# Altium footprint library HV9006_MEASUREBOARD.PCBLIB: 292 footprints (part 5 of 19)
Each footprint in its own frame and in the unit in brackets; x right, y up, seen from the top. Pads: shape width x height; smd on the part's side, far side on the other; paste and mask are expansions set on the pad; w line width, h text height; cw(c..) or ccw(c..) is an arc to the next point about the centre after c.
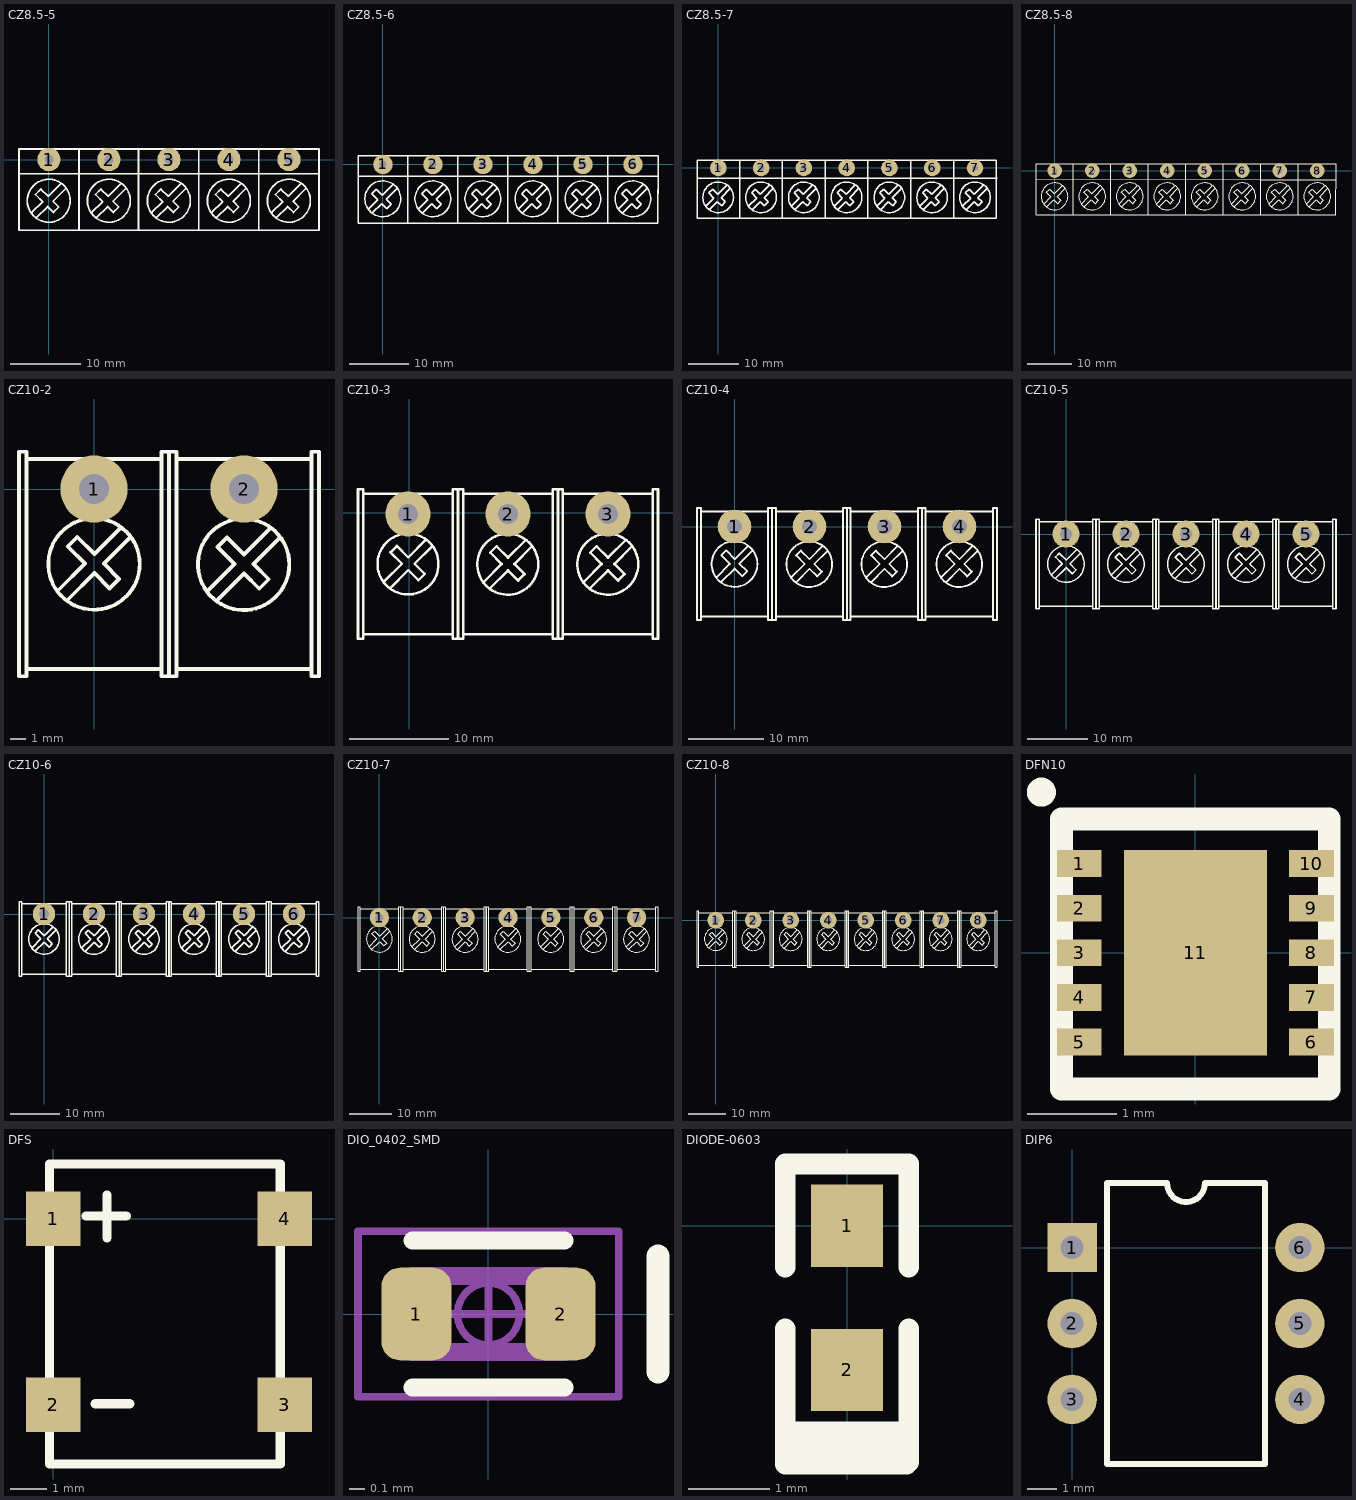
[diagram p4: the footprints below, top view; thin cyan lines are the x and y axes]

## CZ8.5-5 [mil]
pads (5):
  round 130 hole 50: 1(0,0) 2(334.65,0) 3(669.29,0) 4(1003.94,0) 5(1338.58,0)
Top Overlay:
  circle w10: c1003.29,-230 r119.77
  circle w10: c334,-230 r119.77
  circle w10: c-1,-230 r119.77
  circle w10: c668.65,-230 r119.77
  circle w10: c1337.94,-230 r119.77
  lines w10: -167,-197 -167,0 ; -167,-79 1505.94,-80 ; -95,-295 -35,-235 -75,-195 -45,-165 -5,-205 65,-135 ; -70,-325 -7.5,-262.5 25,-295 55,-265 22.68,-232.32 95,-160 ; 167.32,-394 167.32,59 ; 239.65,-295 299.65,-235 259.65,-195 289.65,-165 329.65,-205 399.65,-135 ; 264.65,-325 327.15,-262.5 359.65,-295 389.65,-265 357.33,-232.32 429.65,-160 ; 500,-394 500,59 ; 574.29,-295 634.29,-235 594.29,-195 624.29,-165 664.29,-205 734.29,-135 ; 599.29,-325 661.79,-262.5 694.29,-295 724.29,-265 691.97,-232.32 764.29,-160 ; 835,-394 835,59 ; 908.94,-295 968.94,-235 928.94,-195 958.94,-165 998.94,-205 1068.94,-135 ; 933.94,-325 996.44,-262.5 1028.94,-295 1058.94,-265 1026.62,-232.32 1098.94,-160 ; 1170,-394 1170,59 ; 1243.58,-295 1303.58,-235 1263.58,-195 1293.58,-165 1333.58,-205 1403.58,-135 ; 1268.58,-325 1331.08,-262.5 1363.58,-295 1393.58,-265 1361.27,-232.32 1433.58,-160 ; 1505.94,-197 1505.94,0 ; 1505.91,-394 1505.94,59 ; 1505.91,-394 -167,-394 -167,59 1505.94,59 ; 1505.91,-394 1505.94,59 ; 1505.91,-394 1505.94,59 ; 1505.91,-394 1505.94,59

## CZ8.5-6 [mil]
pads (6):
  round 130 hole 50: 1(0,0) 2(334.65,0) 3(669.29,0) 4(1003.94,0) 5(1338.58,0) 6(1673.23,0)
Top Overlay:
  circle w10: c1337.94,-230 r119.77
  circle w10: c668.65,-230 r119.77
  circle w10: c-1,-230 r119.77
  circle w10: c334,-230 r119.77
  circle w10: c1003.29,-230 r119.77
  circle w10: c1672.58,-230 r119.77
  lines w10: -167,-197 -167,0 ; -167,-79 1840.58,-80 ; -95,-295 -35,-235 -75,-195 -45,-165 -5,-205 65,-135 ; -70,-325 -7.5,-262.5 25,-295 55,-265 22.68,-232.32 95,-160 ; 167.32,-394 167.32,59 ; 239.65,-295 299.65,-235 259.65,-195 289.65,-165 329.65,-205 399.65,-135 ; 264.65,-325 327.15,-262.5 359.65,-295 389.65,-265 357.33,-232.32 429.65,-160 ; 500,-394 500,59 ; 574.29,-295 634.29,-235 594.29,-195 624.29,-165 664.29,-205 734.29,-135 ; 599.29,-325 661.79,-262.5 694.29,-295 724.29,-265 691.97,-232.32 764.29,-160 ; 835,-394 835,59 ; 908.94,-295 968.94,-235 928.94,-195 958.94,-165 998.94,-205 1068.94,-135 ; 933.94,-325 996.44,-262.5 1028.94,-295 1058.94,-265 1026.62,-232.32 1098.94,-160 ; 1170,-394 1170,59 ; 1243.58,-295 1303.58,-235 1263.58,-195 1293.58,-165 1333.58,-205 1403.58,-135 ; 1268.58,-325 1331.08,-262.5 1363.58,-295 1393.58,-265 1361.27,-232.32 1433.58,-160 ; 1505,-394 1505,59 ; 1578.23,-295 1638.23,-235 1598.23,-195 1628.23,-165 1668.23,-205 1738.23,-135 ; 1603.23,-325 1665.73,-262.5 1698.23,-295 1728.23,-265 1695.91,-232.32 1768.23,-160 ; 1840.58,-197 1840.58,0 ; 1840.55,-394 1840.58,59 ; 1840.55,-394 1840.58,59 ; 1840.55,-394 1840.58,59 ; 1840.55,-394 -167,-394 -167,59 1840.58,59 ; 1840.55,-394 1840.58,59 ; 1840.55,-394 1840.58,59 ; 1840.55,-394 1840.58,59 ; 1840.55,-394 1840.58,59 ; 1840.55,-394 1840.58,59

## CZ8.5-7 [mil]
pads (7):
  round 130 hole 50: 1(0,0) 2(334.65,0) 3(669.29,0) 4(1003.94,0) 5(1338.58,0) 6(1673.23,0) 7(2007.87,0)
Top Overlay:
  circle w10: c2007.23,-230 r119.77
  circle w10: c1337.94,-230 r119.77
  circle w10: c668.65,-230 r119.77
  circle w10: c-1,-230 r119.77
  circle w10: c334,-230 r119.77
  circle w10: c1003.29,-230 r119.77
  circle w10: c1672.58,-230 r119.77
  lines w10: -167,-197 -167,0 ; -167,-79 1840.58,-80 2180,-80 ; -95,-295 -35,-235 -75,-195 -45,-165 -5,-205 65,-135 ; -70,-325 -7.5,-262.5 25,-295 55,-265 22.68,-232.32 95,-160 ; 167.32,-394 167.32,59 ; 239.65,-295 299.65,-235 259.65,-195 289.65,-165 329.65,-205 399.65,-135 ; 264.65,-325 327.15,-262.5 359.65,-295 389.65,-265 357.33,-232.32 429.65,-160 ; 500,-394 500,59 ; 574.29,-295 634.29,-235 594.29,-195 624.29,-165 664.29,-205 734.29,-135 ; 599.29,-325 661.79,-262.5 694.29,-295 724.29,-265 691.97,-232.32 764.29,-160 ; 835,-394 835,59 ; 908.94,-295 968.94,-235 928.94,-195 958.94,-165 998.94,-205 1068.94,-135 ; 933.94,-325 996.44,-262.5 1028.94,-295 1058.94,-265 1026.62,-232.32 1098.94,-160 ; 1170,-394 1170,59 ; 1243.58,-295 1303.58,-235 1263.58,-195 1293.58,-165 1333.58,-205 1403.58,-135 ; 1268.58,-325 1331.08,-262.5 1363.58,-295 1393.58,-265 1361.27,-232.32 1433.58,-160 ; 1505,-394 1505,59 ; 1578.23,-295 1638.23,-235 1598.23,-195 1628.23,-165 1668.23,-205 1738.23,-135 ; 1603.23,-325 1665.73,-262.5 1698.23,-295 1728.23,-265 1695.91,-232.32 1768.23,-160 ; 1840.58,-197 1840.58,0 ; 1912.87,-295 1972.87,-235 1932.87,-195 1962.87,-165 2002.87,-205 2072.87,-135 ; 1937.87,-325 2000.37,-262.5 2032.87,-295 2062.87,-265 2030.56,-232.32 2102.87,-160 ; 1840.55,-394 2175.2,-394 2175.23,59 1840.58,59 ; 1840.55,-394 1840.58,59 ; 1840.55,-394 1840.58,59 ; 1840.55,-394 1840.58,59 ; 1840.55,-394 -167,-394 -167,59 1840.58,59 ; 1840.55,-394 1840.58,59 ; 1840.55,-394 1840.58,59 ; 1840.55,-394 1840.58,59 ; 1840.55,-394 1840.58,59 ; 1840.55,-394 1840.58,59

## CZ8.5-8 [mil]
pads (8):
  round 130 hole 50: 1(0,0) 2(334.65,0) 3(669.29,0) 4(1003.94,0) 5(1338.58,0) 6(1673.23,0) 7(2007.87,0) 8(2342.52,0)
Top Overlay:
  circle w10: c2341.87,-230 r119.77
  circle w10: c2007.23,-230 r119.77
  circle w10: c1337.94,-230 r119.77
  circle w10: c668.65,-230 r119.77
  circle w10: c-1,-230 r119.77
  circle w10: c334,-230 r119.77
  circle w10: c1003.29,-230 r119.77
  circle w10: c1672.58,-230 r119.77
  lines w10: -167,-197 -167,0 ; -167,-79 1840.58,-80 2175,-80 ; -95,-295 -35,-235 -75,-195 -45,-165 -5,-205 65,-135 ; -70,-325 -7.5,-262.5 25,-295 55,-265 22.68,-232.32 95,-160 ; 167.32,-394 167.32,59 ; 239.65,-295 299.65,-235 259.65,-195 289.65,-165 329.65,-205 399.65,-135 ; 264.65,-325 327.15,-262.5 359.65,-295 389.65,-265 357.33,-232.32 429.65,-160 ; 500,-394 500,59 ; 574.29,-295 634.29,-235 594.29,-195 624.29,-165 664.29,-205 734.29,-135 ; 599.29,-325 661.79,-262.5 694.29,-295 724.29,-265 691.97,-232.32 764.29,-160 ; 835,-394 835,59 ; 908.94,-295 968.94,-235 928.94,-195 958.94,-165 998.94,-205 1068.94,-135 ; 933.94,-325 996.44,-262.5 1028.94,-295 1058.94,-265 1026.62,-232.32 1098.94,-160 ; 1170,-394 1170,59 ; 1243.58,-295 1303.58,-235 1263.58,-195 1293.58,-165 1333.58,-205 1403.58,-135 ; 1268.58,-325 1331.08,-262.5 1363.58,-295 1393.58,-265 1361.27,-232.32 1433.58,-160 ; 1505,-394 1505,59 ; 1578.23,-295 1638.23,-235 1598.23,-195 1628.23,-165 1668.23,-205 1738.23,-135 ; 1603.23,-325 1665.73,-262.5 1698.23,-295 1728.23,-265 1695.91,-232.32 1768.23,-160 ; 1840.58,-197 1840.58,0 ; 1912.87,-295 1972.87,-235 1932.87,-195 1962.87,-165 2002.87,-205 2072.87,-135 ; 1937.87,-325 2000.37,-262.5 2032.87,-295 2062.87,-265 2030.56,-232.32 2102.87,-160 ; 2175.23,-80 2509.65,-80 ; 2247.52,-295 2307.52,-235 2267.52,-195 2297.52,-165 2337.52,-205 2407.52,-135 ; 2272.52,-325 2335.02,-262.5 2367.52,-295 2397.52,-265 2365.2,-232.32 2437.52,-160 ; 1840.55,-394 2175.2,-394 ; 1840.55,-394 1840.58,59 ; 1840.55,-394 1840.58,59 ; 1840.55,-394 1840.58,59 ; 1840.55,-394 -167,-394 -167,59 1840.58,59 ; 1840.55,-394 1840.58,59 ; 1840.55,-394 1840.58,59 ; 1840.55,-394 1840.58,59 ; 1840.55,-394 1840.58,59 ; 1840.55,-394 1840.58,59 ; 1840.58,59 2175.23,59 ; 2175.2,-394 2509.84,-394 2509.87,59 2175.23,59 ; 2175.2,-394 2175.23,59

## CZ10-2 [mm]
pads (2):
  round 4.5 hole 2: 1(0,0) 2(10.008,0)
Top Overlay:
  circle w0.254: c9.982,-5.029 r3.048
  circle w0.254: c0,-5.004 r3.048
  lines w0.254: -2.388,-6.756 -0.61,-4.978 -1.753,-3.835 -1.118,-3.2 0.025,-4.343 1.803,-2.565 ; -1.753,-7.391 0.025,-5.613 1.041,-6.629 1.676,-5.994 0.66,-4.978 2.438,-3.2 ; 5.004,-12.497 5.004,2.489 ; 7.595,-6.782 9.373,-5.004 8.23,-3.861 8.865,-3.226 10.008,-4.369 11.786,-2.591 ; 8.23,-7.417 10.008,-5.639 11.024,-6.655 11.659,-6.02 10.643,-5.004 12.421,-3.226 ; -4.496,-12.014 -4.496,2.007 ; -4.496,-12.014 -4.496,-12.497 -5.004,-12.497 -5.004,2.489 -4.496,2.489 -4.496,2.007 ; -4.496,-12.014 4.496,-12.014 ; -4.496,2.007 4.496,2.007 ; 4.496,-12.014 4.496,2.007 ; 4.496,-12.014 4.496,-12.497 5.512,-12.497 5.512,-12.014 ; 4.496,2.007 4.496,2.489 5.512,2.489 5.512,2.007 ; 5.512,-12.014 5.512,2.007 ; 5.512,-12.014 14.503,-12.014 ; 5.512,2.007 14.503,2.007 ; 14.503,-12.014 14.503,2.007 ; 14.503,-12.014 14.503,-12.497 15.011,-12.497 15.011,2.489 14.503,2.489 14.503,2.007

## CZ10-3 [mm]
pads (3):
  round 4.5 hole 2: 1(-0.127,-0.127) 2(9.881,-0.127) 3(19.888,-0.127)
Top Overlay:
  circle w0.254: c19.863,-5.156 r3.048
  circle w0.254: c9.855,-5.156 r3.048
  circle w0.254: c-0.127,-5.131 r3.048
  lines w0.254: -2.515,-6.883 -0.737,-5.105 -1.88,-3.962 -1.245,-3.327 -0.102,-4.47 1.676,-2.692 ; -1.88,-7.518 -0.102,-5.74 0.914,-6.756 1.549,-6.121 0.533,-5.105 2.311,-3.327 ; 4.877,-12.624 4.877,2.362 ; 7.468,-6.909 9.246,-5.131 8.103,-3.988 8.738,-3.353 9.881,-4.496 11.659,-2.718 ; 8.103,-7.544 9.881,-5.766 10.897,-6.782 11.532,-6.147 10.516,-5.131 12.294,-3.353 ; 14.884,-12.624 14.884,2.362 ; 17.475,-6.909 19.253,-5.131 18.11,-3.988 18.745,-3.353 19.888,-4.496 21.666,-2.718 ; 18.11,-7.544 19.888,-5.766 20.904,-6.782 21.539,-6.147 20.523,-5.131 22.301,-3.353 ; 24.892,-12.624 24.892,2.362 ; -4.623,-12.141 -4.623,1.88 ; -4.623,-12.141 -4.623,-12.624 -5.131,-12.624 -5.131,2.362 -4.623,2.362 -4.623,1.88 ; -4.623,-12.141 4.369,-12.141 ; -4.623,1.88 4.369,1.88 ; 4.369,-12.141 4.369,1.88 ; 4.369,-12.141 4.369,-12.624 5.385,-12.624 5.385,-12.141 ; 4.369,1.88 4.369,2.362 5.385,2.362 5.385,1.88 ; 5.385,-12.141 5.385,1.88 ; 5.385,-12.141 14.376,-12.141 ; 5.385,1.88 14.376,1.88 ; 14.376,-12.141 14.376,1.88 ; 14.376,-12.141 14.376,-12.624 15.367,-12.624 15.367,-12.141 ; 14.376,1.88 14.376,2.362 15.367,2.362 15.367,1.88 ; 15.367,-12.141 15.367,1.88 ; 15.367,-12.141 24.384,-12.141 ; 15.367,1.88 24.384,1.88 ; 24.384,-12.141 24.384,1.88 ; 24.384,-12.141 24.384,-12.624 24.867,-12.624 24.867,2.362 24.384,2.362 24.384,1.88

## CZ10-4 [mm]
pads (4):
  round 4.5 hole 2: 1(0,0) 2(10.008,0) 3(20.015,0) 4(30.023,0)
Top Overlay:
  circle w0.254: c29.997,-5.029 r3.048
  circle w0.254: c0,-5.004 r3.048
  circle w0.254: c9.982,-5.029 r3.048
  circle w0.254: c19.99,-5.029 r3.048
  lines w0.254: -2.388,-6.756 -0.61,-4.978 -1.753,-3.835 -1.118,-3.2 0.025,-4.343 1.803,-2.565 ; -1.753,-7.391 0.025,-5.613 1.041,-6.629 1.676,-5.994 0.66,-4.978 2.438,-3.2 ; 5.004,-12.497 5.004,2.489 ; 7.595,-6.782 9.373,-5.004 8.23,-3.861 8.865,-3.226 10.008,-4.369 11.786,-2.591 ; 8.23,-7.417 10.008,-5.639 11.024,-6.655 11.659,-6.02 10.643,-5.004 12.421,-3.226 ; 15.011,-12.497 15.011,2.489 ; 17.602,-6.782 19.38,-5.004 18.237,-3.861 18.872,-3.226 20.015,-4.369 21.793,-2.591 ; 18.237,-7.417 20.015,-5.639 21.031,-6.655 21.666,-6.02 20.65,-5.004 22.428,-3.226 ; 25.019,-12.497 25.019,2.489 ; 27.61,-6.782 29.388,-5.004 28.245,-3.861 28.88,-3.226 30.023,-4.369 31.801,-2.591 ; 28.245,-7.417 30.023,-5.639 31.039,-6.655 31.674,-6.02 30.658,-5.004 32.436,-3.226 ; 35.027,-12.497 35.027,2.489 ; -4.496,-12.014 4.496,-12.014 ; -4.496,-12.014 -4.496,-12.497 -5.004,-12.497 -5.004,2.489 -4.496,2.489 -4.496,2.007 ; -4.496,-12.014 -4.496,2.007 ; -4.496,2.007 4.496,2.007 ; 4.496,-12.014 4.496,-12.497 5.512,-12.497 5.512,-12.014 ; 4.496,-12.014 4.496,2.007 ; 4.496,2.007 4.496,2.489 5.512,2.489 5.512,2.007 ; 5.512,-12.014 14.503,-12.014 ; 5.512,-12.014 5.512,2.007 ; 5.512,2.007 14.503,2.007 ; 14.503,-12.014 14.503,-12.497 15.494,-12.497 15.494,-12.014 ; 14.503,-12.014 14.503,2.007 ; 14.503,2.007 14.503,2.489 15.494,2.489 15.494,2.007 ; 15.494,-12.014 24.511,-12.014 ; 15.494,-12.014 15.494,2.007 ; 15.494,2.007 24.511,2.007 ; 24.511,-12.014 24.511,-12.497 24.994,-12.497 ; 24.511,-12.014 24.511,2.007 ; 24.511,2.007 24.511,2.489 24.994,2.489 ; 24.994,-12.497 25.502,-12.497 25.502,-12.014 ; 24.994,-12.497 24.994,2.489 ; 24.994,2.489 25.502,2.489 25.502,2.007 ; 25.502,-12.014 34.519,-12.014 ; 25.502,-12.014 25.502,2.007 ; 25.502,2.007 34.519,2.007 ; 34.519,-12.014 34.519,-12.497 35.001,-12.497 35.001,2.489 34.519,2.489 34.519,2.007 ; 34.519,-12.014 34.519,2.007

## CZ10-5 [mm]
pads (5):
  round 4.5 hole 2: 1(0,0) 2(10.008,0) 3(20.015,0) 4(30.023,0) 5(40.03,0)
Top Overlay:
  circle w0.254: c40.005,-5.029 r3.048
  circle w0.254: c29.997,-5.029 r3.048
  circle w0.254: c0,-5.004 r3.048
  circle w0.254: c9.982,-5.029 r3.048
  circle w0.254: c19.99,-5.029 r3.048
  lines w0.254: -2.388,-6.756 -0.61,-4.978 -1.753,-3.835 -1.118,-3.2 0.025,-4.343 1.803,-2.565 ; -1.753,-7.391 0.025,-5.613 1.041,-6.629 1.676,-5.994 0.66,-4.978 2.438,-3.2 ; 5.004,-12.497 5.004,2.489 ; 7.595,-6.782 9.373,-5.004 8.23,-3.861 8.865,-3.226 10.008,-4.369 11.786,-2.591 ; 8.23,-7.417 10.008,-5.639 11.024,-6.655 11.659,-6.02 10.643,-5.004 12.421,-3.226 ; 15.011,-12.497 15.011,2.489 ; 17.602,-6.782 19.38,-5.004 18.237,-3.861 18.872,-3.226 20.015,-4.369 21.793,-2.591 ; 18.237,-7.417 20.015,-5.639 21.031,-6.655 21.666,-6.02 20.65,-5.004 22.428,-3.226 ; 25.019,-12.497 25.019,2.489 ; 27.61,-6.782 29.388,-5.004 28.245,-3.861 28.88,-3.226 30.023,-4.369 31.801,-2.591 ; 28.245,-7.417 30.023,-5.639 31.039,-6.655 31.674,-6.02 30.658,-5.004 32.436,-3.226 ; 37.617,-6.782 39.395,-5.004 38.252,-3.861 38.887,-3.226 40.03,-4.369 41.808,-2.591 ; 38.252,-7.417 40.03,-5.639 41.046,-6.655 41.681,-6.02 40.665,-5.004 42.443,-3.226 ; 45.034,-12.497 45.034,2.489 ; -4.496,-12.014 4.496,-12.014 ; -4.496,-12.014 -4.496,-12.497 -5.004,-12.497 -5.004,2.489 -4.496,2.489 -4.496,2.007 ; -4.496,-12.014 -4.496,2.007 ; -4.496,2.007 4.496,2.007 ; 4.496,-12.014 4.496,-12.497 5.512,-12.497 5.512,-12.014 ; 4.496,-12.014 4.496,2.007 ; 4.496,2.007 4.496,2.489 5.512,2.489 5.512,2.007 ; 5.512,-12.014 14.503,-12.014 ; 5.512,-12.014 5.512,2.007 ; 5.512,2.007 14.503,2.007 ; 14.503,-12.014 14.503,-12.497 15.494,-12.497 15.494,-12.014 ; 14.503,-12.014 14.503,2.007 ; 14.503,2.007 14.503,2.489 15.494,2.489 15.494,2.007 ; 15.494,-12.014 24.511,-12.014 ; 15.494,-12.014 15.494,2.007 ; 15.494,2.007 24.511,2.007 ; 24.511,-12.014 24.511,-12.497 24.994,-12.497 ; 24.511,-12.014 24.511,2.007 ; 24.511,2.007 24.511,2.489 24.994,2.489 ; 24.994,-12.497 25.502,-12.497 25.502,-12.014 ; 24.994,-12.497 24.994,2.489 ; 24.994,2.489 25.502,2.489 25.502,2.007 ; 25.502,-12.014 34.519,-12.014 ; 25.502,-12.014 25.502,2.007 ; 25.502,2.007 34.519,2.007 ; 34.519,-12.014 34.519,-12.497 35.001,-12.497 35.001,2.489 34.519,2.489 34.519,2.007 ; 34.519,-12.014 34.519,2.007 ; 35.509,-12.014 44.526,-12.014 ; 35.509,-12.014 35.509,-12.497 35.027,-12.497 35.027,2.489 35.509,2.489 35.509,2.007 ; 35.509,-12.014 35.509,2.007 ; 35.509,2.007 44.526,2.007 ; 44.526,-12.014 44.526,-12.497 45.009,-12.497 45.009,2.489 44.526,2.489 44.526,2.007 ; 44.526,-12.014 44.526,2.007

## CZ10-6 [mm]
pads (6):
  round 4.5 hole 2: 1(0,0) 2(10.008,0) 3(20.015,0) 4(30.023,0) 5(40.03,0) 6(50.038,0)
Top Overlay:
  circle w0.254: c19.99,-5.029 r3.048
  circle w0.254: c9.982,-5.029 r3.048
  circle w0.254: c0,-5.004 r3.048
  circle w0.254: c29.997,-5.029 r3.048
  circle w0.254: c40.005,-5.029 r3.048
  circle w0.254: c50.013,-5.029 r3.048
  lines w0.254: -2.388,-6.756 -0.61,-4.978 -1.753,-3.835 -1.118,-3.2 0.025,-4.343 1.803,-2.565 ; -1.753,-7.391 0.025,-5.613 1.041,-6.629 1.676,-5.994 0.66,-4.978 2.438,-3.2 ; 5.004,-12.497 5.004,2.489 ; 7.595,-6.782 9.373,-5.004 8.23,-3.861 8.865,-3.226 10.008,-4.369 11.786,-2.591 ; 8.23,-7.417 10.008,-5.639 11.024,-6.655 11.659,-6.02 10.643,-5.004 12.421,-3.226 ; 15.011,-12.497 15.011,2.489 ; 17.602,-6.782 19.38,-5.004 18.237,-3.861 18.872,-3.226 20.015,-4.369 21.793,-2.591 ; 18.237,-7.417 20.015,-5.639 21.031,-6.655 21.666,-6.02 20.65,-5.004 22.428,-3.226 ; 25.019,-12.497 25.019,2.489 ; 27.61,-6.782 29.388,-5.004 28.245,-3.861 28.88,-3.226 30.023,-4.369 31.801,-2.591 ; 28.245,-7.417 30.023,-5.639 31.039,-6.655 31.674,-6.02 30.658,-5.004 32.436,-3.226 ; 37.617,-6.782 39.395,-5.004 38.252,-3.861 38.887,-3.226 40.03,-4.369 41.808,-2.591 ; 38.252,-7.417 40.03,-5.639 41.046,-6.655 41.681,-6.02 40.665,-5.004 42.443,-3.226 ; 45.034,-12.497 45.034,2.489 ; 47.625,-6.782 49.403,-5.004 48.26,-3.861 48.895,-3.226 50.038,-4.369 51.816,-2.591 ; 48.26,-7.417 50.038,-5.639 51.054,-6.655 51.689,-6.02 50.673,-5.004 52.451,-3.226 ; 55.042,-12.497 55.042,2.489 ; -4.496,-12.014 -4.496,2.007 ; -4.496,-12.014 -4.496,-12.497 -5.004,-12.497 -5.004,2.489 -4.496,2.489 -4.496,2.007 ; -4.496,-12.014 4.496,-12.014 ; -4.496,2.007 4.496,2.007 ; 4.496,-12.014 4.496,2.007 ; 4.496,-12.014 4.496,-12.497 5.512,-12.497 5.512,-12.014 ; 4.496,2.007 4.496,2.489 5.512,2.489 5.512,2.007 ; 5.512,-12.014 5.512,2.007 ; 5.512,-12.014 14.503,-12.014 ; 5.512,2.007 14.503,2.007 ; 14.503,-12.014 14.503,2.007 ; 14.503,-12.014 14.503,-12.497 15.494,-12.497 15.494,-12.014 ; 14.503,2.007 14.503,2.489 15.494,2.489 15.494,2.007 ; 15.494,-12.014 15.494,2.007 ; 15.494,-12.014 24.511,-12.014 ; 15.494,2.007 24.511,2.007 ; 24.511,-12.014 24.511,2.007 ; 24.511,-12.014 24.511,-12.497 24.994,-12.497 ; 24.511,2.007 24.511,2.489 24.994,2.489 ; 24.994,-12.497 24.994,2.489 ; 24.994,-12.497 25.502,-12.497 25.502,-12.014 ; 24.994,2.489 25.502,2.489 25.502,2.007 ; 25.502,-12.014 25.502,2.007 ; 25.502,-12.014 34.519,-12.014 ; 25.502,2.007 34.519,2.007 ; 34.519,-12.014 34.519,2.007 ; 34.519,-12.014 34.519,-12.497 35.001,-12.497 35.001,2.489 34.519,2.489 34.519,2.007 ; 35.509,-12.014 35.509,2.007 ; 35.509,-12.014 35.509,-12.497 35.027,-12.497 35.027,2.489 35.509,2.489 35.509,2.007 ; 35.509,-12.014 44.526,-12.014 ; 35.509,2.007 44.526,2.007 ; 44.526,-12.014 44.526,2.007 ; 44.526,-12.014 44.526,-12.497 45.009,-12.497 ; 44.526,2.007 44.526,2.489 45.009,2.489 ; 45.009,-12.497 45.009,2.489 ; 45.009,-12.497 45.517,-12.497 45.517,-12.014 ; 45.009,2.489 45.517,2.489 45.517,2.007 ; 45.517,-12.014 45.517,2.007 ; 45.517,-12.014 54.534,-12.014 ; 45.517,2.007 54.534,2.007 ; 54.534,-12.014 54.534,2.007 ; 54.534,-12.014 54.534,-12.497 55.016,-12.497 55.016,2.489 54.534,2.489 54.534,2.007

## CZ10-7 [mm]
pads (7):
  round 4.5 hole 2: 1(0,0) 2(10.008,0) 3(20.015,0) 4(30.023,0) 5(40.03,0) 6(50.038,0) 7(60.046,0)
Top Overlay:
  drawing of 170 lines, arcs and shapes, not listed

## CZ10-8 [mm]
pads (8):
  round 4.5 hole 2: 1(0,0) 2(10.008,0) 3(20.015,0) 4(30.023,0) 5(40.03,0) 6(50.038,0) 7(60.046,0) 8(70.053,0)
Top Overlay:
  drawing of 202 lines, arcs and shapes, not listed

## DFN10 [mm]
pads (11):
  rect 0.5x0.3 smd: 1(-1.3,1) 2(-1.3,0.5) 3(-1.3,0) 4(-1.3,-0.5) 5(-1.3,-1) 6(1.3,-1) 7(1.3,-0.5) 8(1.3,0) 9(1.3,0.5) 10(1.3,1)
  rect 1.6x2.3 smd: 11(0,0)
Top Overlay:
  circle w0.254: c-1.725,1.8 r0.035
  lines w0.254: -1.5,1.475 -1.5,-1.525 1.5,-1.525 1.5,1.475 ; -1.5,1.5 1.5,1.5

## DFS [mm]
pads (4):
  rect 1.5x1.5 smd: 1(0,0) 2(0,-5.1) 3(6.35,-5.1) 4(6.35,0)
Top Overlay:
  lines w0.254: 0.9,0.075 2,0.075 ; 1.15,-5.075 2.1,-5.075 ; 1.475,-0.525 1.475,0.65 ; -0.1,-6.725 -0.1,1.5 6.225,1.5 6.225,-6.725 -0.1,-6.725

## DIO_0402_SMD [mm] "Diode, Chip; 1.00 mm L X 0.50 mm W X 0.45 mm H body"
height 0.45
pads (2):
  rrect52% 0.46x0.61 smd: 1(-0.475,0) 2(0.475,0)
Top Overlay:
  lines w0.12: -0.5,-0.485 0.5,-0.485 ; -0.5,0.485 0.5,0.485
  lines w0.152: 1.118,-0.381 1.118,0.381
Mechanical 11:
  lines w0.12: -0.5,-0.25 -0.5,0.25 0.5,0.25 0.5,-0.25 -0.5,-0.25
Mechanical 12:
  lines w0.025: -0.5,-0.25 -0.3,-0.25 -0.3,0.25 -0.5,0.25 ; -0.5,-0.25 -0.5,0.25 ; -0.5,-0.25 -0.5,0.25 ; -0.5,-0.25 0.5,-0.25 ; -0.5,0.25 0.5,0.25 ; 0.5,-0.25 0.5,0.25 ; 0.5,-0.25 0.3,-0.25 0.3,0.25 0.5,0.25 ; 0.5,-0.25 0.5,0.25
Mechanical 15:
  circle w0.05: c0,0 r0.204
  lines w0.05: -0.272,0 0.272,0 ; 0,-0.272 0,0.272 ; -0.86,-0.545 -0.86,0.545 0.86,0.545 0.86,-0.545 -0.86,-0.545
Mechanical 16:
  text ".Designator" at 0,0 h1.2
3D body: height 0.08, standoff 0, extent -0.508,-0.305 0.508,0.305
3D body: height 0.08, standoff 0, extent 0.47,-0.127 0.538,0.127
3D body: height 0.08, standoff 0, extent -0.542,-0.127 -0.474,0.127
3D body: height 0.2, standoff 0, extent -0.225,-0.3 0.225,0.3
3D body: height 0.2, standoff 0, extent -0.1,-0.275 0.15,0.275

## DIODE-0603 [mil]
pads (2):
  rect 35x40 smd: 1(0,0) 2(0,-70)
Top Overlay:
  lines w10: -30,-50 -30,-100 ; -30,-20 -30,30 30,30 30,-20 ; 30,-50 30,-100 ; -30,-100 -30,-115.67 29.06,-115.67 30,-114.72 30,-107.8 ; -30,-100 -30,-107.8 -29.53,-108.27 29.53,-108.27 30,-107.8 ; -30,-100 30,-100 ; 30,-107.8 30,-100

## DIP6 [mil]
pads (6):
  rect 65x65 hole 30: 1(0,0)
  round 65 hole 30: 2(0,-100) 3(0,-200) 4(300,-200) 5(300,-100) 6(300,0)
Top Overlay:
  lines w7.87: 45.67,-285.04 254.33,-285.04 254.33,85.04 175,85.04 cw(c150,85.04) 125,85.04 45.67,85.04 45.67,-285.04